# Altium schematic symbol library Sensor.SchLib: 9 symbols
Pins are listed as number, name and electrical type; pins without a type are passive.

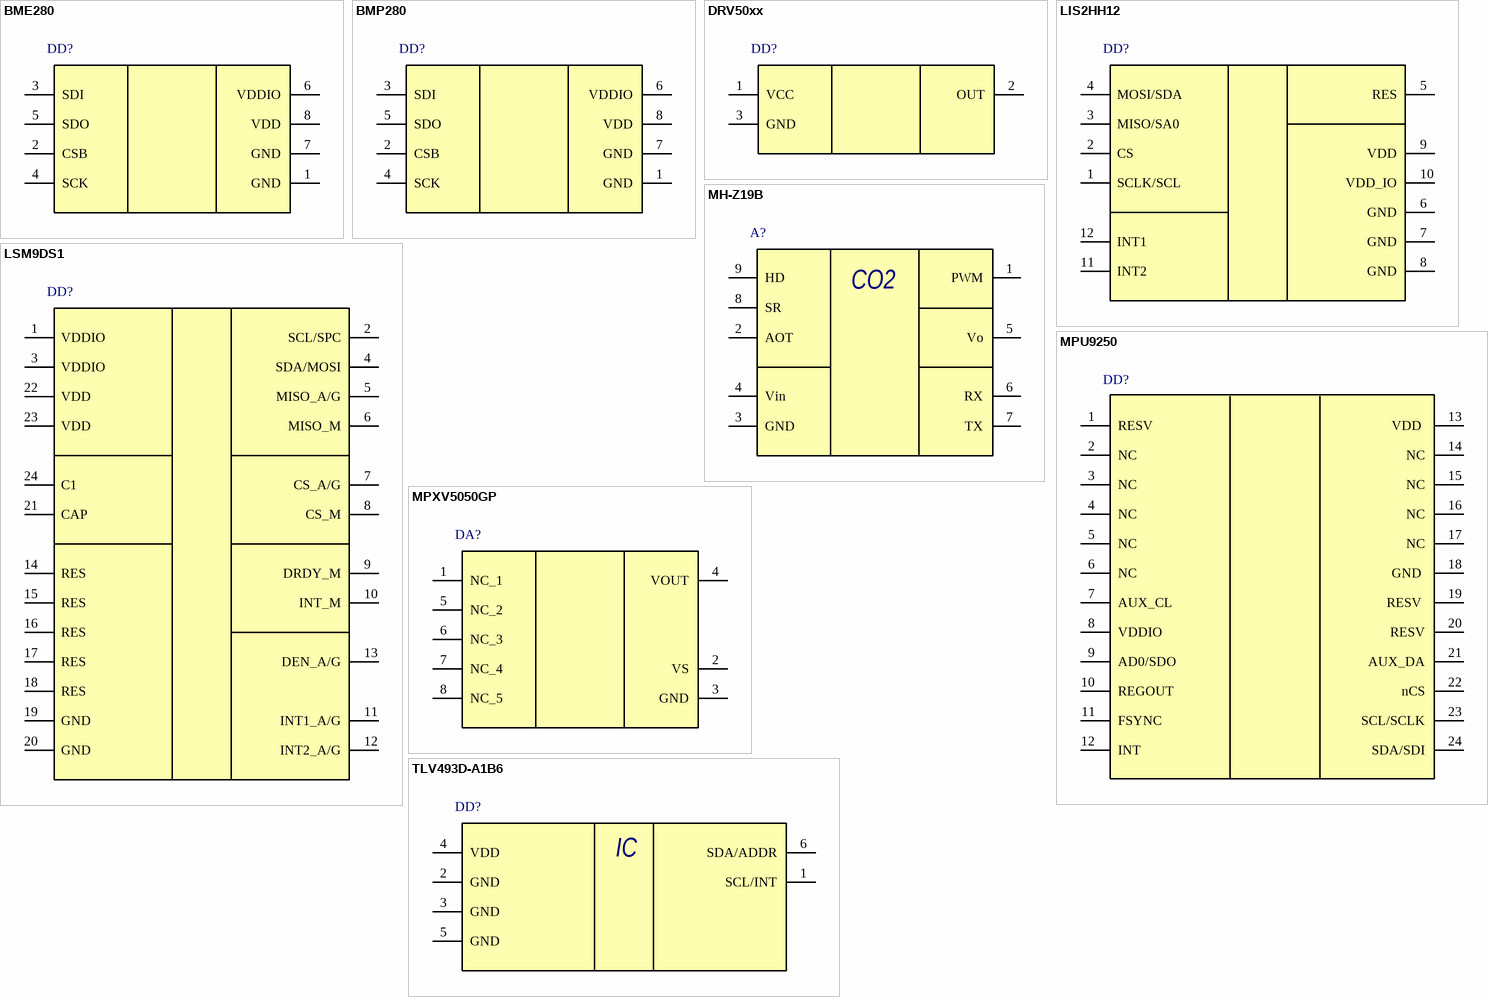
[diagram p0: symbols BME280 to TLV493D-A1B6]

## BME280
designator DD?
pins: 1 GND, 2 CSB, 3 SDI, 4 SCK, 5 SDO, 6 VDDIO, 7 GND, 8 VDD

## BMP280
designator DD?
pins: 1 GND, 2 CSB, 3 SDI, 4 SCK, 5 SDO, 6 VDDIO, 7 GND, 8 VDD

## DRV50xx
designator DD?
Датчик Холла с рекордно низким потреблением
pins: 1 VCC, 2 OUT, 3 GND

## LIS2HH12
designator DD?
MEMS digital output motion sensor
pins: 1 SCLK/SCL, 2 CS, 3 MISO/SA0, 4 MOSI/SDA, 5 RES, 6 GND, 7 GND, 8 GND, 9 VDD, 10 VDD_IO, 11 INT2, 12 INT1

## LSM9DS1
designator DD?
3D accelerometer, 3D gyroscope, 3D magnetometer
pins: 1 VDDIO, 2 SCL/SPC, 3 VDDIO, 4 SDA/MOSI, 5 MISO_A/G, 6 MISO_M, 7 CS_A/G, 8 CS_M, 9 DRDY_M, 10 INT_M, 11 INT1_A/G, 12 INT2_A/G, 13 DEN_A/G, 14 RES, 15 RES, 16 RES, 17 RES, 18 RES, 19 GND, 20 GND, 21 CAP, 22 VDD, 23 VDD, 24 C1

## MH-Z19B
designator A?
pins: 1 PWM, 2 AOT, 3 GND, 4 Vin, 5 Vo, 6 RX, 7 TX, 8 SR, 9 HD
text: CO2

## MPU9250
designator DD?
МЭМС-датчик 9-осевой
pins: 1 RESV, 2 NC, 3 NC, 4 NC, 5 NC, 6 NC, 7 AUX_CL, 8 VDDIO, 9 AD0/SDO, 10 REGOUT, 11 FSYNC , 12 INT , 13 VDD , 14 NC, 15 NC, 16 NC, 17 NC, 18 GND , 19 RESV , 20 RESV, 21 AUX_DA, 22 nCS, 23 SCL/SCLK, 24 SDA/SDI

## MPXV5050GP
designator DA?
Integrated Silicon Pressure Sensor
pins: 1 NC_1, 2 VS, 3 GND, 4 VOUT, 5 NC_2, 6 NC_3, 7 NC_4, 8 NC_5

## TLV493D-A1B6
designator DD?
Low Power 3D Magnetic Sensor with I2 / C Interface
pins: 1 SCL/INT, 2 GND, 3 GND, 4 VDD, 5 GND, 6 SDA/ADDR
text: IC